# Altium footprint library soed_new.PcbLib: 46 footprints (part 2 of 3)
Each footprint in its own frame and in the unit in brackets; x right, y up, seen from the top. Pads: shape width x height; smd on the part's side, far side on the other; paste and mask are expansions set on the pad; w line width, h text height; cw(c..) or ccw(c..) is an arc to the next point about the centre after c.
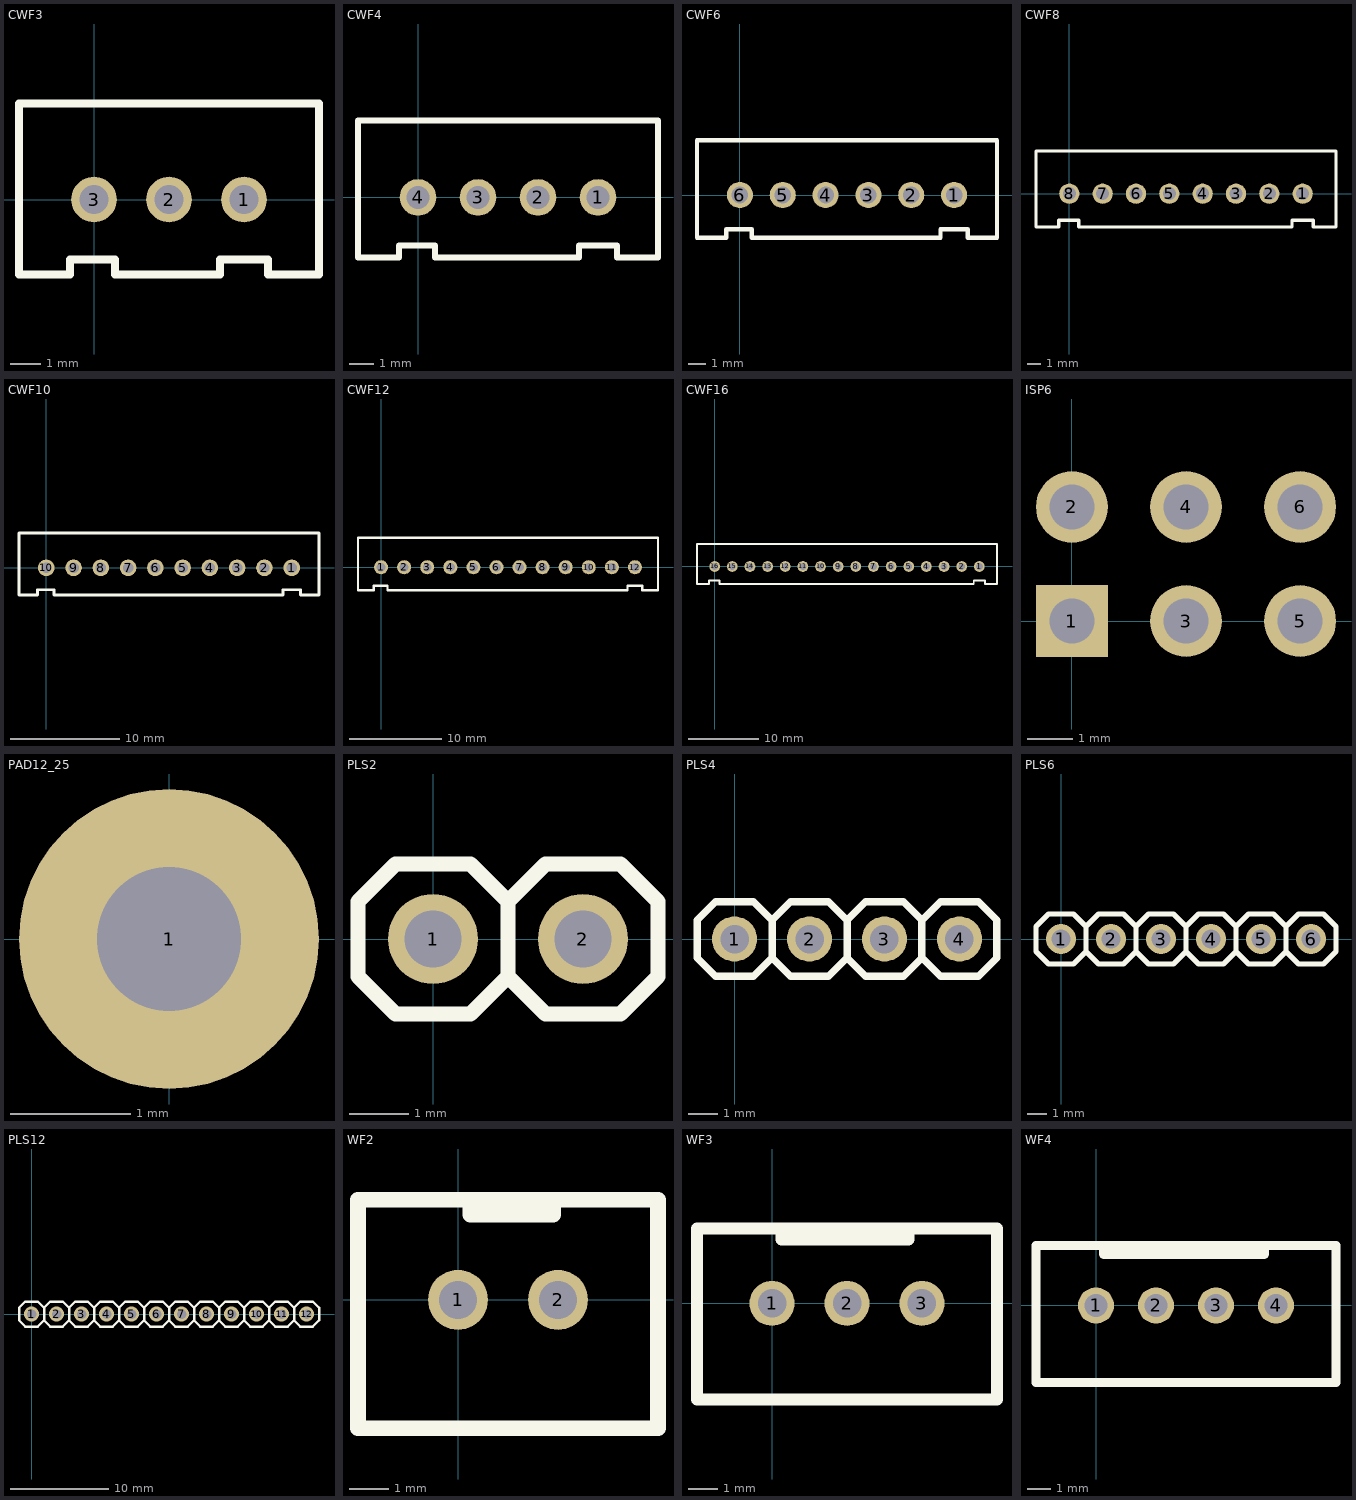
[diagram p1: the footprints below, top view; thin cyan lines are the x and y axes]

## CWF3 [mil]
pads (3):
  round 60 hole 38: 1(196.85,0) 2(98.43,0) 3(0,0)
Top Overlay:
  lines w10: 27.56,-98.43 27.56,-78.74 -31.5,-78.74 -31.5,-98.43 -98.43,-98.43 -98.43,125.98 295.28,125.98 295.28,-98.43 228.35,-98.43 228.35,-78.74 165.35,-78.74 165.35,-98.43 31.5,-98.43

## CWF4 [mil]
pads (4):
  round 60 hole 38: 1(295.28,0) 2(196.85,0) 3(98.43,0) 4(0,0)
Top Overlay:
  lines w10: 27.56,-98.43 27.56,-78.74 -31.5,-78.74 -31.5,-98.43 -98.43,-98.43 -98.43,125.98 393.7,125.98 393.7,-98.43 326.77,-98.43 326.77,-78.74 263.78,-78.74 263.78,-98.43 31.5,-98.43

## CWF6 [mil]
pads (6):
  round 60 hole 38: 1(492.13,0) 2(393.7,0) 3(295.28,0) 4(196.85,0) 5(98.43,0) 6(0,0)
Top Overlay:
  lines w10: 27.56,-98.43 27.56,-78.74 -31.5,-78.74 -31.5,-98.43 -98.43,-98.43 -98.43,125.98 590.55,125.98 590.55,-98.43 523.62,-98.43 523.62,-78.74 460.63,-78.74 460.63,-98.43 31.5,-98.43

## CWF8 [mil]
pads (8):
  round 60 hole 38: 1(688.98,0) 2(590.55,0) 3(492.13,0) 4(393.7,0) 5(295.28,0) 6(196.85,0) 7(98.43,0) 8(0,0)
Top Overlay:
  lines w10: 27.56,-98.43 27.56,-78.74 -31.5,-78.74 -31.5,-98.43 -98.43,-98.43 -98.43,125.98 787.4,125.98 787.4,-98.43 720.47,-98.43 720.47,-78.74 657.48,-78.74 657.48,-98.43 31.5,-98.43

## CWF10 [mil]
pads (10):
  round 60 hole 38: 1(885.83,0) 2(787.4,0) 3(688.98,0) 4(590.55,0) 5(492.13,0) 6(393.7,0) 7(295.28,0) 8(196.85,0) 9(98.43,0) 10(0,0)
Top Overlay:
  lines w10: 27.56,-98.43 27.56,-78.74 -31.5,-78.74 -31.5,-98.43 -98.43,-98.43 -98.43,125.98 984.25,125.98 984.25,-98.43 917.32,-98.43 917.32,-78.74 854.33,-78.74 854.33,-98.43 31.5,-98.43

## CWF12 [mil]
pads (12):
  round 60 hole 38: 1(0,0) 2(98.43,0) 3(196.85,0) 4(295.28,0) 5(393.7,0) 6(492.13,0) 7(590.55,0) 8(688.98,0) 9(787.4,0) 10(885.83,0) 11(984.25,0) 12(1082.68,0)
Top Overlay:
  lines w10: 27.56,-98.43 27.56,-78.74 -31.5,-78.74 -31.5,-98.43 -98.43,-98.43 -98.43,125.98 1181.1,125.98 1181.1,-98.43 1114.17,-98.43 1114.17,-78.74 1051.18,-78.74 1051.18,-98.43 31.5,-98.43

## CWF16 [mil]
pads (16):
  round 60 hole 38: 1(1476.38,0) 2(1377.95,0) 3(1279.53,0) 4(1181.1,0) 5(1082.68,0) 6(984.25,0) 7(885.83,0) 8(787.4,0) 9(688.98,0) 10(590.55,0) 11(492.13,0) 12(393.7,0) 13(295.28,0) 14(196.85,0) 15(98.43,0) 16(0,0)
Top Overlay:
  lines w10: 27.56,-98.43 27.56,-78.74 -31.5,-78.74 -31.5,-98.43 -98.43,-98.43 -98.43,125.98 1574.8,125.98 1574.8,-98.43 1507.87,-98.43 1507.87,-78.74 1444.88,-78.74 1444.88,-98.43 31.5,-98.43

## ISP6 [mm]
pads (6):
  rect 1.6x1.6 hole 1: 1(0,0)
  round 1.6 hole 1: 2(0,2.54) 3(2.54,0) 4(2.54,2.54) 5(5.08,0) 6(5.08,2.54)

## PAD12_25 [mm]
pads (1):
  round 2.5 hole 1.2: 1(0,0)

## PLS2 [mil]
pads (2):
  round 60 hole 38: 1(0,0) 2(100,0)
Top Overlay:
  lines w10: 50,-25 50,25 ; 50,-25 50,25 ; 50,-25 75,-50 125,-50 150,-25 ; 50,-25 25,-50 -25,-50 -50,-25 -50,25 -25,50 25,50 50,25 ; 50,25 75,50 125,50 150,25 ; 150,-25 150,25 ; 150,-25 150,25

## PLS4 [mil]
pads (4):
  round 60 hole 38: 1(0,0) 2(100,0) 3(200,0) 4(300,0)
Top Overlay:
  lines w10: 50,-25 50,25 ; 50,-25 50,25 ; 50,-25 75,-50 125,-50 150,-25 ; 50,-25 25,-50 -25,-50 -50,-25 -50,25 -25,50 25,50 50,25 ; 50,25 75,50 125,50 150,25 ; 150,-25 150,25 ; 150,-25 150,25 ; 150,-25 175,-50 225,-50 250,-25 ; 150,25 175,50 225,50 250,25 ; 250,-25 250,25 ; 250,-25 250,25 ; 250,-25 275,-50 325,-50 350,-25 ; 250,25 275,50 325,50 350,25 ; 350,-25 350,25 ; 350,-25 350,25

## PLS6 [mil]
pads (6):
  round 60 hole 38: 1(0,0) 2(100,0) 3(200,0) 4(300,0) 5(400,0) 6(500,0)
Top Overlay:
  lines w10: 50,-25 50,25 ; 50,-25 50,25 ; 50,-25 75,-50 125,-50 150,-25 ; 50,-25 25,-50 -25,-50 -50,-25 -50,25 -25,50 25,50 50,25 ; 50,25 75,50 125,50 150,25 ; 150,-25 150,25 ; 150,-25 150,25 ; 150,-25 175,-50 225,-50 250,-25 ; 150,25 175,50 225,50 250,25 ; 250,-25 250,25 ; 250,-25 250,25 ; 250,-25 275,-50 325,-50 350,-25 ; 250,25 275,50 325,50 350,25 ; 350,-25 350,25 ; 350,-25 350,25 ; 350,-25 375,-50 425,-50 450,-25 ; 350,25 375,50 425,50 450,25 ; 450,-25 450,25 ; 450,-25 450,25 ; 450,-25 475,-50 525,-50 550,-25 ; 450,25 475,50 525,50 550,25 ; 550,-25 550,25 ; 550,-25 550,25

## PLS12 [mil]
pads (12):
  round 60 hole 38: 1(0,0) 2(100,0) 3(200,0) 4(300,0) 5(400,0) 6(500,0) 7(600,0) 8(700,0) 9(800,0) 10(900,0) 11(1000,0) 12(1100,0)
Top Overlay:
  lines w10: 50,-25 50,25 ; 50,-25 50,25 ; 50,-25 75,-50 125,-50 150,-25 ; 50,-25 25,-50 -25,-50 -50,-25 -50,25 -25,50 25,50 50,25 ; 50,25 75,50 125,50 150,25 ; 150,-25 150,25 ; 150,-25 150,25 ; 150,-25 175,-50 225,-50 250,-25 ; 150,25 175,50 225,50 250,25 ; 250,-25 250,25 ; 250,-25 250,25 ; 250,-25 275,-50 325,-50 350,-25 ; 250,25 275,50 325,50 350,25 ; 350,-25 350,25 ; 350,-25 350,25 ; 350,-25 375,-50 425,-50 450,-25 ; 350,25 375,50 425,50 450,25 ; 450,-25 450,25 ; 450,-25 450,25 ; 450,-25 475,-50 525,-50 550,-25 ; 450,25 475,50 525,50 550,25 ; 550,-25 550,25 ; 550,-25 550,25 ; 550,-25 575,-50 625,-50 650,-25 ; 550,-25 550,25 ; 550,-25 550,25 ; 550,25 575,50 625,50 650,25 ; 650,-25 650,25 ; 650,-25 650,25 ; 650,-25 675,-50 725,-50 750,-25 ; 650,-25 650,25 ; 650,-25 650,25 ; 650,25 675,50 725,50 750,25 ; 750,-25 750,25 ; 750,-25 750,25 ; 750,-25 775,-50 825,-50 850,-25 ; 750,-25 750,25 ; 750,-25 750,25 ; 750,25 775,50 825,50 850,25 ; 850,-25 850,25 ; 850,-25 850,25 ; 850,-25 875,-50 925,-50 950,-25 ; 850,-25 850,25 ; 850,-25 850,25 ; 850,25 875,50 925,50 950,25 ; 950,-25 950,25 ; 950,-25 950,25 ; 950,-25 975,-50 1025,-50 1050,-25 ; 950,-25 950,25 ; 950,-25 950,25 ; 950,25 975,50 1025,50 1050,25 ; 1050,-25 1050,25 ; 1050,-25 1050,25 ; 1050,-25 1075,-50 1125,-50 1150,-25 ; 1050,-25 1050,25 ; 1050,-25 1050,25 ; 1050,25 1075,50 1125,50 1150,25 ; 1150,-25 1150,25 ; 1150,-25 1150,25

## WF2 [mil]
pads (2):
  round 60 hole 38: 1(0,0) 2(100,0)
Top Overlay:
  lines w15.75: 0,100 -100,100 ; 12.6,96.85 12.6,85.04 95.28,85.04 95.28,96.85 ; -100,100 200,100 200,-128.35 -100,-128.35 -100,100

## WF3 [mil]
pads (3):
  round 60 hole 38: 1(0,0) 2(100,0) 3(200,0)
Top Overlay:
  lines w15.75: 0,100 -100,100 ; 12.6,96.85 12.6,85.04 181.89,85.04 181.89,96.85 ; -100,100 300,100 300,-128.35 -100,-128.35 -100,100

## WF4 [mil]
pads (4):
  round 60 hole 38: 1(0,0) 2(100,0) 3(200,0) 4(300,0)
Top Overlay:
  lines w15.75: 0,100 -100,100 ; 12.6,96.85 12.6,85.04 280.31,85.04 280.31,96.85 ; -100,100 400,100 400,-128.35 -100,-128.35 -100,100